# Altium schematic symbol library CPFBZ-A2C4-32.768KD12.5.Schlib: 1 symbol
Pins are listed as number, name and electrical type; pins without a type are passive.

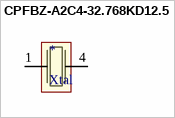
[diagram p0: symbol CPFBZ-A2C4-32.768KD12.5]

## CPFBZ-A2C4-32.768KD12.5
designator *, comment Xtal
XTAL TUNING 32.786kHz CPFB
pins: 1, 4